# Altium footprint library WE-MAIA.PcbLib: 20 footprints (part 1 of 2)
Each footprint in its own frame and in the unit in brackets; x right, y up, seen from the top. Pads: shape width x height; smd on the part's side, far side on the other; paste and mask are expansions set on the pad; w line width, h text height; cw(c..) or ccw(c..) is an arc to the next point about the centre after c.
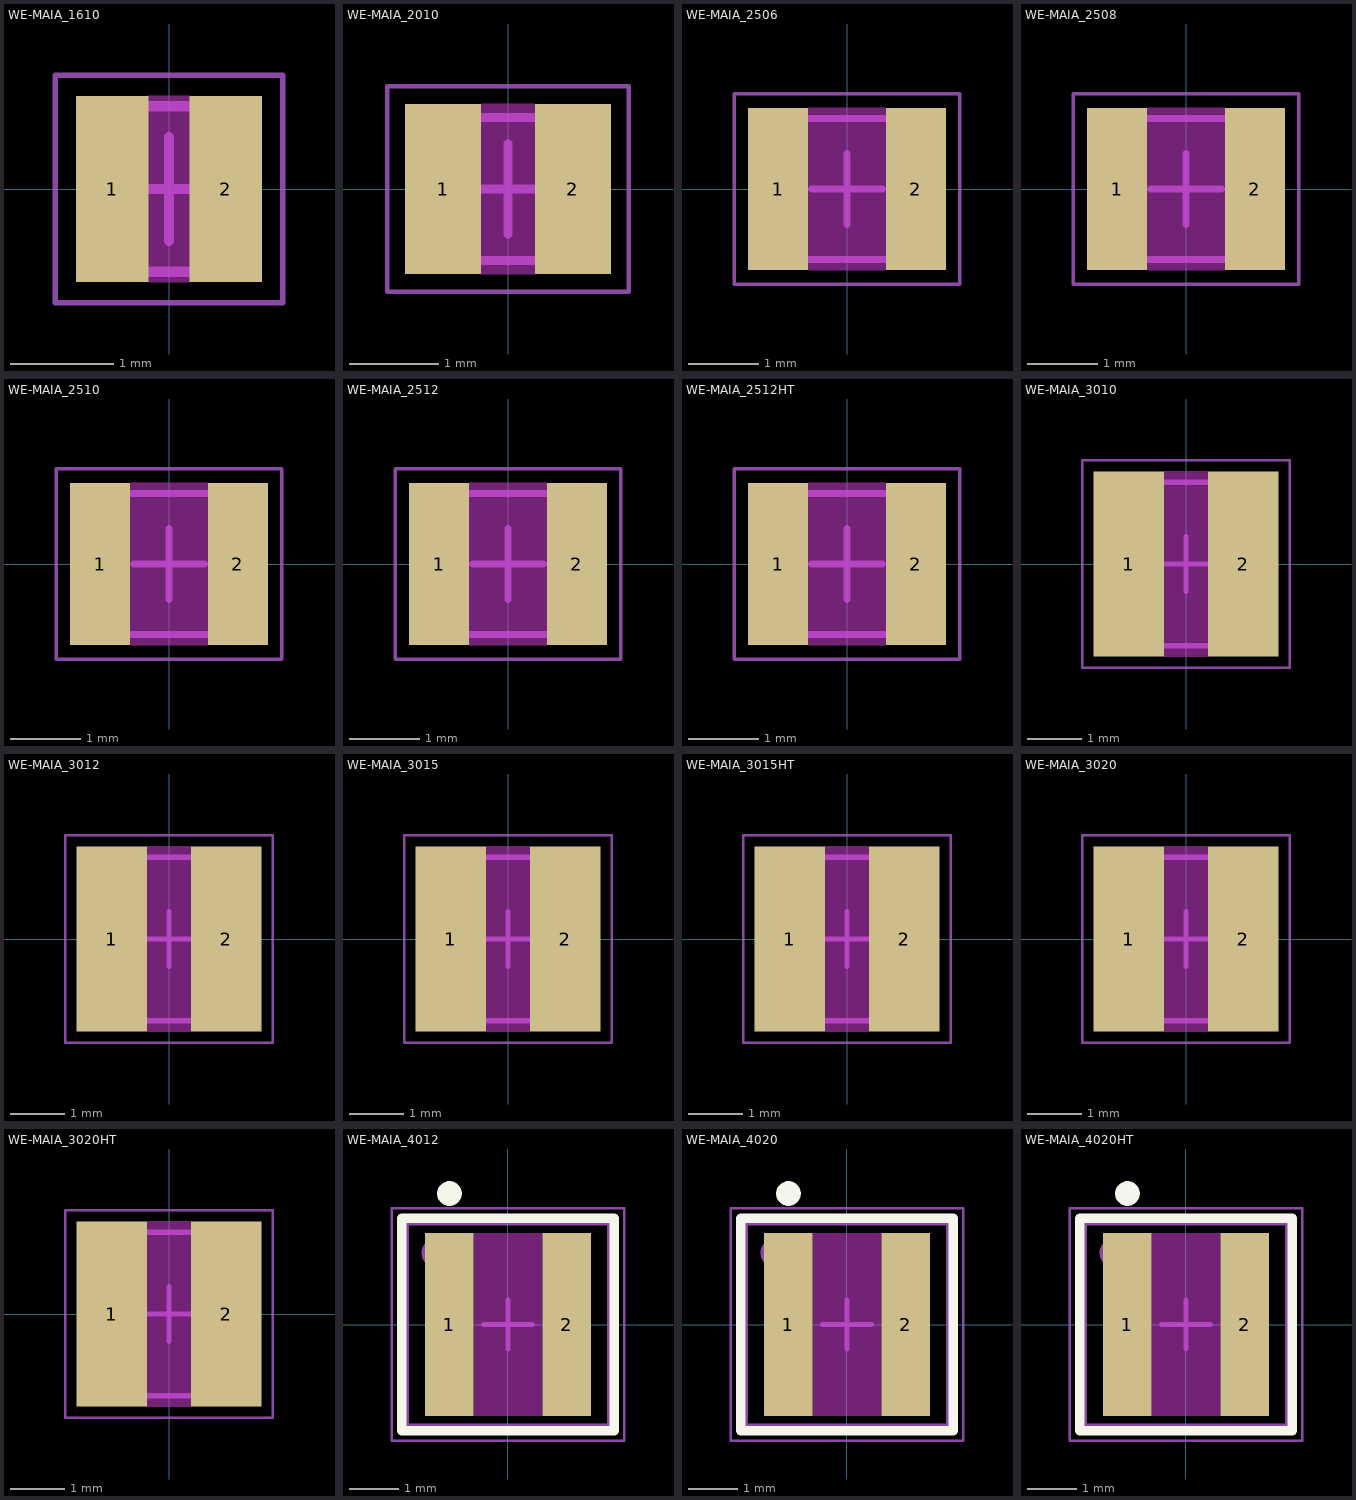
[diagram p0: the footprints below, top view; thin cyan lines are the x and y axes]

## WE-MAIA_1610 [mm] "SMT Power Inductor, 2-leads, body 1.6x1.6mm"
height 1
pads (2):
  rect 0.7x1.8 smd: 1(-0.55,0) 2(0.55,0)
Top Layer keep-out:
  region: -0.2,0.9 0.2,0.9 0.2,-0.9 -0.2,-0.9
Top Assembly:
  lines w0.1: -0.8,-0.8 -0.8,0.8 0.8,0.8 0.8,-0.8 -0.8,-0.8
Top Designator:
  text ".Designator" at -3.647,-0.357 h1
Top Courtyard:
  lines w0.05: -1.1,-1.1 -1.1,1.1 1.1,1.1 1.1,-1.1 -1.1,-1.1
Top Component Center:
  lines w0.1: -0.5,0 0.5,0 ; 0,-0.5 0,0.5
3D body "WE-IndMAIA_1610.stp": height 1, standoff 0, extent -0.8,-0.8 0.8,0.8

## WE-MAIA_2010 [mm] "SMD Power Inductor, 2-leads, body 2.00 x 1.60 mm"
height 1
pads (2):
  rect 0.85x1.9 smd: 1(-0.725,0) 2(0.725,0)
Top Layer keep-out:
  region: -0.3,0.95 0.3,0.95 0.3,-0.95 -0.3,-0.95
Top Assembly:
  lines w0.1: -1,-0.8 1,-0.8 1,0.8 -1,0.8 -1,-0.8
Top Designator:
  text ".Designator" at -3.647,-0.357 h1
Top Courtyard:
  lines w0.05: -1.35,-1.15 -1.35,1.15 1.35,1.15 1.35,-1.15 -1.35,-1.15
Top Component Center:
  lines w0.1: -0.5,0 0.5,0 ; 0,-0.5 0,0.5
3D body "IndMAIA_2010.stp": height 1, standoff 0, extent -1,-0.8 1,0.8

## WE-MAIA_2506 [mm] "SMD Power Inductor, 2-leads, body 2.5x2mm"
height 0.6
pads (2):
  rect 0.85x2.3 smd: 1(-0.975,0) 2(0.975,0)
Top Layer keep-out:
  region: -0.55,1.15 0.55,1.15 0.55,-1.15 -0.55,-1.15
Top Assembly:
  lines w0.1: -1.25,-1 -1.25,1 1.25,1 1.25,-1 -1.25,-1
Top Designator:
  text ".Designator" at -3.647,-0.357 h1
Top Courtyard:
  lines w0.05: -1.6,-1.35 1.6,-1.35 1.6,1.35 -1.6,1.35 -1.6,-1.35
Top Component Center:
  lines w0.1: -0.5,0 0.5,0 ; 0,-0.5 0,0.5
3D body "WE-IndMAIA_SSMC-252006-S.stp": height 0.6, standoff 0, extent -1.25,-1 1.25,1

## WE-MAIA_2508 [mm] "SMD Power Inductor, 2-leads, body 2.5x2mm"
height 0.8
pads (2):
  rect 0.85x2.3 smd: 1(-0.975,0) 2(0.975,0)
Top Layer keep-out:
  region: -0.55,1.15 0.55,1.15 0.55,-1.15 -0.55,-1.15
Top Assembly:
  lines w0.1: -1.25,-1 1.25,-1 1.25,1 -1.25,1 -1.25,-1
Top Designator:
  text ".Designator" at -3.647,-0.357 h1
Top Courtyard:
  lines w0.05: -1.6,-1.35 -1.6,1.35 1.6,1.35 1.6,-1.35 -1.6,-1.35
Top Component Center:
  lines w0.1: -0.5,0 0.5,0 ; 0,-0.5 0,0.5
3D body "WE-IndMAIA_SSMC-252008-S.stp": height 0.8, standoff 0, extent -1.25,-1 1.25,1

## WE-MAIA_2510 [mm] "SMD Power Inductor, 2-leads, body 2.5x2mm"
height 1
pads (2):
  rect 0.85x2.3 smd: 1(-0.975,0) 2(0.975,0)
Top Layer keep-out:
  region: -0.55,1.15 0.55,1.15 0.55,-1.15 -0.55,-1.15
Top Assembly:
  lines w0.1: -1.25,-1 -1.25,1 1.25,1 1.25,-1 -1.25,-1
Top Designator:
  text ".Designator" at -3.647,-0.357 h1
Top Courtyard:
  lines w0.05: -1.6,-1.35 1.6,-1.35 1.6,1.35 -1.6,1.35 -1.6,-1.35
Top Component Center:
  lines w0.1: -0.5,0 0.5,0 ; 0,-0.5 0,0.5
3D body "WE-IndMAIA_SSMC-252010-S.stp": height 1, standoff 0, extent -1.25,-1 1.25,1

## WE-MAIA_2512 [mm] "SMD Power Inductor, 2-leads, body 2.5x2mm"
height 1.2
pads (2):
  rect 0.85x2.3 smd: 1(-0.975,0) 2(0.975,0)
Top Layer keep-out:
  region: -0.55,1.15 0.55,1.15 0.55,-1.15 -0.55,-1.15
Top Assembly:
  lines w0.1: -1.25,-1 -1.25,1 1.25,1 1.25,-1 -1.25,-1
Top Designator:
  text ".Designator" at -3.647,-0.357 h1
Top Courtyard:
  lines w0.05: -1.6,-1.35 1.6,-1.35 1.6,1.35 -1.6,1.35 -1.6,-1.35
Top Component Center:
  lines w0.1: -0.5,0 0.5,0 ; 0,-0.5 0,0.5
3D body "WE-IndMAIA_SSMC-252012-S.stp": height 1.2, standoff 0, extent -1.25,-1 1.25,1

## WE-MAIA_2512HT [mm] "SMD Power Inductor, 2-leads, body 2.50 x 2.00 mm"
height 1.2
pads (2):
  rect 0.85x2.3 smd: 1(-0.975,0) 2(0.975,0)
Top Layer keep-out:
  region: -0.55,1.15 0.55,1.15 0.55,-1.15 -0.55,-1.15
Top Assembly:
  lines w0.1: -1.25,-1 1.25,-1 1.25,1 -1.25,1 -1.25,-1
Top Designator:
  text ".Designator" at -3.647,-0.357 h1
Top Courtyard:
  lines w0.05: -1.6,-1.35 -1.6,1.35 1.6,1.35 1.6,-1.35 -1.6,-1.35
Top Component Center:
  lines w0.1: -0.5,0 0.5,0 ; 0,-0.5 0,0.5
3D body "IndMAIA_2512HT.stp": height 1.2, standoff 0, extent -1.25,-1 1.25,1

## WE-MAIA_3010 [mm] "SMD Power Inductor, 2-leads, body 3x3mm"
height 1
pads (2):
  rect 1.3x3.4 smd: 1(-1.05,0) 2(1.05,0)
Top Layer keep-out:
  region: -0.4,1.7 0.4,1.7 0.4,-1.7 -0.4,-1.7
Top Assembly:
  lines w0.1: -1.5,-1.5 -1.5,1.5 1.5,1.5 1.5,-1.5 -1.5,-1.5
Top Designator:
  text ".Designator" at -3.647,-0.357 h1
Top Courtyard:
  lines w0.05: -1.9,-1.9 -1.9,1.9 1.9,1.9 1.9,-1.9 -1.9,-1.9
Top Component Center:
  lines w0.1: -0.5,0 0.5,0 ; 0,-0.5 0,0.5
3D body "WE-IndMAIA_SSMC-303010-S.stp": height 1, standoff 0, extent -1.5,-1.5 1.5,1.5

## WE-MAIA_3012 [mm] "SMD Power Inductor, 2-leads, body 3x3mm"
height 1.2
pads (2):
  rect 1.3x3.4 smd: 1(-1.05,0) 2(1.05,0)
Top Layer keep-out:
  region: -0.4,1.7 0.4,1.7 0.4,-1.7 -0.4,-1.7
Top Assembly:
  lines w0.1: -1.5,-1.5 1.5,-1.5 1.5,1.5 -1.5,1.5 -1.5,-1.5
Top Designator:
  text ".Designator" at -3.647,-0.357 h1
Top Courtyard:
  lines w0.05: -1.9,-1.9 1.9,-1.9 1.9,1.9 -1.9,1.9 -1.9,-1.9
Top Component Center:
  lines w0.1: -0.5,0 0.5,0 ; 0,-0.5 0,0.5
3D body "WE-IndMAIA_SSMC-303012-S.stp": height 1.2, standoff 0, extent -1.5,-1.5 1.5,1.5

## WE-MAIA_3015 [mm] "SMD Power Inductor, 2-leads, body 3x3mm"
height 1.5
pads (2):
  rect 1.3x3.4 smd: 1(-1.05,0) 2(1.05,0)
Top Layer keep-out:
  region: -0.4,1.7 0.4,1.7 0.4,-1.7 -0.4,-1.7
Top Assembly:
  lines w0.1: -1.5,-1.5 1.5,-1.5 1.5,1.5 -1.5,1.5 -1.5,-1.5
Top Designator:
  text ".Designator" at -3.647,-0.357 h1
Top Courtyard:
  lines w0.05: -1.9,-1.9 -1.9,1.9 1.9,1.9 1.9,-1.9 -1.9,-1.9
Top Component Center:
  lines w0.1: -0.5,0 0.5,0 ; 0,-0.5 0,0.5
3D body "WE-MAIA_3015.stp": height 1.5, standoff 0, extent -1.5,-1.5 1.5,1.5

## WE-MAIA_3015HT [mm] "SMD Power Inductor, 2-leads, body 3.00 x 3.00 mm"
height 1.5
pads (2):
  rect 1.3x3.4 smd: 1(-1.05,0) 2(1.05,0)
Top Layer keep-out:
  region: -0.4,1.7 0.4,1.7 0.4,-1.7 -0.4,-1.7
Top Assembly:
  lines w0.1: -1.5,-1.5 1.5,-1.5 1.5,1.5 -1.5,1.5 -1.5,-1.5
Top Designator:
  text ".Designator" at -3.647,-0.357 h1
Top Courtyard:
  lines w0.05: -1.9,-1.9 -1.9,1.9 1.9,1.9 1.9,-1.9 -1.9,-1.9
Top Component Center:
  lines w0.1: -0.5,0 0.5,0 ; 0,-0.5 0,0.5
3D body "IndMAIA_3015HT.stp": height 1.5, standoff 0, extent -1.5,-1.5 1.5,1.5

## WE-MAIA_3020 [mm] "SMD Power Inductor, 2-leads, body 3x3mm"
height 2
pads (2):
  rect 1.3x3.4 smd: 1(-1.05,0) 2(1.05,0)
Top Layer keep-out:
  region: -0.4,1.7 0.4,1.7 0.4,-1.7 -0.4,-1.7
Top Assembly:
  lines w0.1: -1.5,-1.5 1.5,-1.5 1.5,1.5 -1.5,1.5 -1.5,-1.5
Top Designator:
  text ".Designator" at -3.647,-0.357 h1
Top Courtyard:
  lines w0.05: -1.9,-1.9 1.9,-1.9 1.9,1.9 -1.9,1.9 -1.9,-1.9
Top Component Center:
  lines w0.1: -0.5,0 0.5,0 ; 0,-0.5 0,0.5
3D body "WE-IndMAIA_SSMC-303020-S.stp": height 2, standoff 0, extent -1.5,-1.5 1.5,1.5

## WE-MAIA_3020HT [mm] "SMD Power Inductor, 2-leads, body 3.00 x 3.00 mm"
height 2
pads (2):
  rect 1.3x3.4 smd: 1(-1.05,0) 2(1.05,0)
Top Layer keep-out:
  region: -0.4,1.7 0.4,1.7 0.4,-1.7 -0.4,-1.7
Top Assembly:
  lines w0.1: -1.5,-1.5 1.5,-1.5 1.5,1.5 -1.5,1.5 -1.5,-1.5
Top Designator:
  text ".Designator" at -3.647,-0.357 h1
Top Courtyard:
  lines w0.05: -1.9,-1.9 1.9,-1.9 1.9,1.9 -1.9,1.9 -1.9,-1.9
Top Component Center:
  lines w0.1: -0.5,0 0.5,0 ; 0,-0.5 0,0.5
3D body "IndMAIA_3020HT.stp": height 2, standoff 0, extent -1.5,-1.5 1.5,1.5

## WE-MAIA_4012 [mm] "SMD Power Inductor, 2-leads, body 4.10 x 4.10 mm"
height 1.3
pads (2):
  rect 0.98x3.7 smd: 1(-1.185,0) 2(1.185,0)
Top Layer keep-out:
  region: -0.695,1.85 0.695,1.85 0.695,-1.85 -0.695,-1.85
Top Overlay:
  circle w0.25: c-1.185,2.65 r0.125
  lines w0.2: -2.15,-2.15 -2.15,2.15 2.15,2.15 2.15,-2.15 -2.15,-2.15
Top Assembly:
  circle w0.1: c-1.45,1.45 r0.25
  lines w0.1: -2.05,-2.05 -2.05,2.05 2.05,2.05 2.05,-2.05 -2.05,-2.05
Top Designator:
  text ".Designator" at -3.647,-0.357 h1
Top Courtyard:
  lines w0.05: -2.35,-2.35 -2.35,2.35 2.35,2.35 2.35,-2.35 -2.35,-2.35
Top Component Center:
  lines w0.1: -0.5,0 0.5,0 ; 0,-0.5 0,0.5
3D body "IndMAIA_4012.stp": height 1.3, standoff 0, extent -2.05,-2.05 2.05,2.05

## WE-MAIA_4020 [mm] "SMD Power Inductor, 2-leads, body 4.1x4.1mm"
height 2.1
pads (2):
  rect 0.98x3.7 smd: 1(-1.185,0) 2(1.185,0)
Top Layer keep-out:
  region: -0.695,1.85 0.695,1.85 0.695,-1.85 -0.695,-1.85
Top Overlay:
  circle w0.25: c-1.185,2.65 r0.125
  lines w0.2: -2.15,-2.15 2.15,-2.15 2.15,2.15 -2.15,2.15 -2.15,-2.15
Top Assembly:
  circle w0.1: c-1.45,1.45 r0.25
  lines w0.1: -2.05,-2.05 2.05,-2.05 2.05,2.05 -2.05,2.05 -2.05,-2.05
Top Designator:
  text ".Designator" at -3.647,-0.357 h1
Top Courtyard:
  lines w0.05: -2.35,-2.35 2.35,-2.35 2.35,2.35 -2.35,2.35 -2.35,-2.35
Top Component Center:
  lines w0.1: -0.5,0 0.5,0 ; 0,-0.5 0,0.5
3D body "WE-IndMAIA_SSMC-403020-S.stp": height 2.1, standoff 0, extent -2.05,-2.05 2.05,2.05

## WE-MAIA_4020HT [mm] "SMD Power Inductor, 2-leads, body 4.10 x 4.10 mm"
height 2.1
pads (2):
  rect 0.98x3.7 smd: 1(-1.185,0) 2(1.185,0)
Top Layer keep-out:
  region: -0.695,1.85 0.695,1.85 0.695,-1.85 -0.695,-1.85
Top Overlay:
  circle w0.25: c-1.185,2.65 r0.125
  lines w0.2: -2.15,-2.15 -2.15,2.15 2.15,2.15 2.15,-2.15 -2.15,-2.15
Top Assembly:
  circle w0.1: c-1.45,1.45 r0.25
  lines w0.1: -2.05,-2.05 -2.05,2.05 2.05,2.05 2.05,-2.05 -2.05,-2.05
Top Designator:
  text ".Designator" at -3.647,-0.357 h1
Top Courtyard:
  lines w0.05: -2.35,-2.35 -2.35,2.35 2.35,2.35 2.35,-2.35 -2.35,-2.35
Top Component Center:
  lines w0.1: -0.5,0 0.5,0 ; 0,-0.5 0,0.5
3D body "IndMAIA_4020HT.stp": height 2.1, standoff 0, extent -2.05,-2.05 2.05,2.05